# EAGLE library part 62202021121 (library Wuerth_Elektronik_eiCan_Pin_&_Socked_Headers_v1.3)
WR-PHD 1.27mm Dual Pin Header, 20 Pins
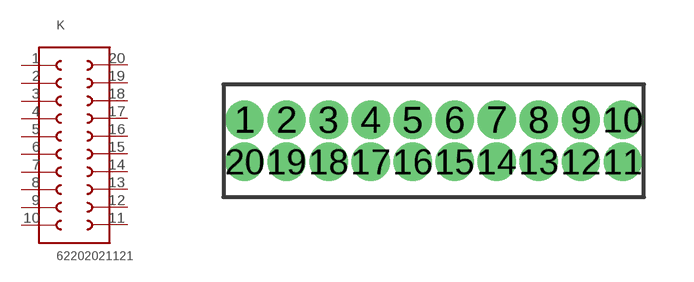
[diagram p325: symbol with the pads of 62202021121; footprint 62202021121]

Designator prefix K

## 62202021121  [62202021121]
1  1  pas
2  2  pas
3  3  pas
4  4  pas
5  5  pas
6  6  pas
7  7  pas
8  8  pas
9  9  pas
10  10  pas
11  11  pas
12  12  pas
13  13  pas
14  14  pas
15  15  pas
16  16  pas
17  17  pas
18  18  pas
19  19  pas
20  20  pas

## Footprint 62202021121 (pad centres in mm)
WR-PHD 1.27mm Dual Pin Header, 20 Pins
drill 0.65 round: 1 -5.715,0.635; 2 -4.445,0.635; 3 -3.175,0.635; 4 -1.905,0.635; 5 -0.635,0.635; 6 0.635,0.635; 7 1.905,0.635; 8 3.175,0.635; 9 4.445,0.635; 10 5.715,0.635; 11 5.715,-0.635; 12 4.445,-0.635; 13 3.175,-0.635; 14 1.905,-0.635; 15 0.635,-0.635; 16 -0.635,-0.635; 17 -1.905,-0.635; 18 -3.175,-0.635; 19 -4.445,-0.635; 20 -5.715,-0.635